# Altium schematic symbol library CP2102.SchLib: 1 symbol
Pins are listed as number, name and electrical type; pins without a type are passive.

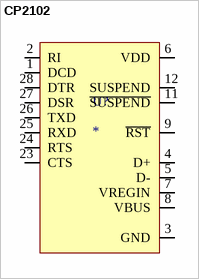
[diagram p0: symbol CP2102]

## CP2102
designator U?
Part No.: CP2102; Manufacturer: Silicon Labs; Vendor: Mouser; Price Est.: $3.66
footprint QFN28 5x5 SILABS (QFN-28 5mm x 5mm Body SiLabs CP2102)
pins: 1 DCD, 2 RI, 3 GND, 4 D+, 5 D-, 6 VDD, 7 VREGIN, 8 VBUS, 9 ~{RST}, 11 ~{SUSPEND}, 12 SUSPEND, 23 CTS, 24 RTS, 25 RXD, 26 TXD, 27 DSR, 28 DTR